# Altium footprint library MCP1700T.PcbLib: 1 footprints
Each footprint in its own frame and in the unit in brackets; x right, y up, seen from the top. Pads: shape width x height; smd on the part's side, far side on the other; paste and mask are expansions set on the pad; w line width, h text height; cw(c..) or ccw(c..) is an arc to the next point about the centre after c.
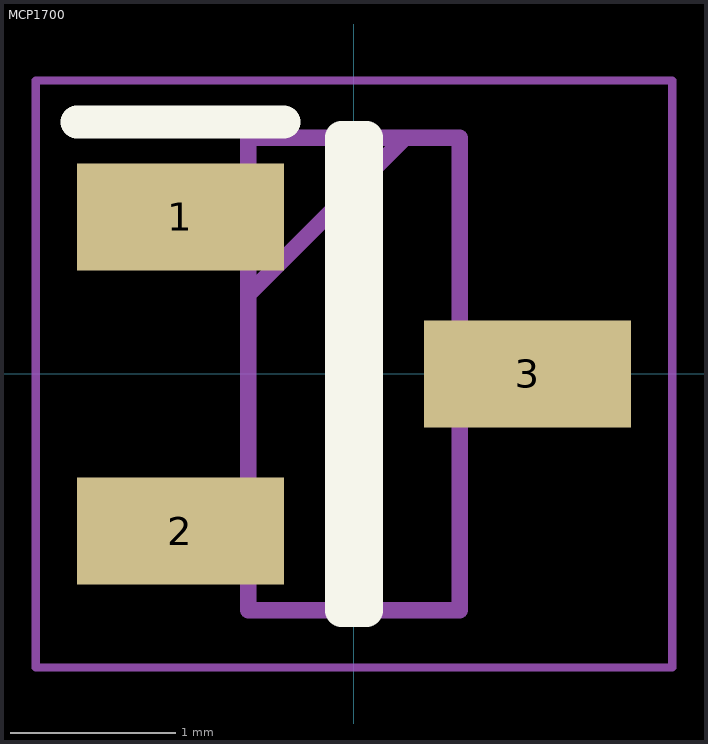
[diagram p0: the footprint, top view; thin cyan lines are the x and y axes]

## MCP1700 [mm]
pads (3):
  rect 1.25x0.65 smd: 1(-1.05,0.95) 2(-1.05,-0.95) 3(1.05,0)
Top Overlay:
  lines w0.2: -1.675,1.525 -0.425,1.525 ; -0.075,-1.43 0.075,-1.43 0.075,1.43 -0.075,1.43 -0.075,-1.43
Mechanical 13:
  lines w0.1: -0.64,0.48 0.31,1.43 ; -0.64,-1.43 0.64,-1.43 0.64,1.43 -0.64,1.43 -0.64,-1.43
Mechanical 15:
  lines w0.05: -1.925,-1.775 1.925,-1.775 1.925,1.775 -1.925,1.775 -1.925,-1.775
3D body "SOT23.step": height 1.05, standoff -0.05, extent -1.25,-1.5 1.25,1.5